# Altium footprint library 单片机.PcbLib: 4 footprints
Each footprint in its own frame and in the unit in brackets; x right, y up, seen from the top. Pads: shape width x height; smd on the part's side, far side on the other; paste and mask are expansions set on the pad; w line width, h text height; cw(c..) or ccw(c..) is an arc to the next point about the centre after c.
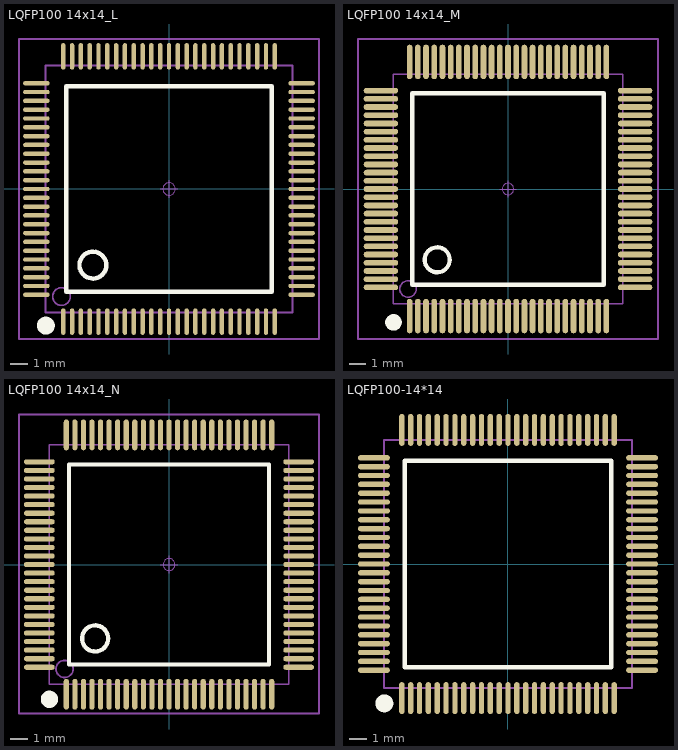
[diagram p0: the footprints below, top view; thin cyan lines are the x and y axes]

## LQFP100 14x14_L [mm] "100脚，体宽14x14mm，脚距0.5mm"
height 1.6
pads (100):
  oval 0.25x1.5 smd: 1(-6,-7.525) 2(-5.5,-7.525) 3(-5,-7.525) 4(-4.5,-7.525) 5(-4,-7.525) 6(-3.5,-7.525) 7(-3,-7.525) 8(-2.5,-7.525) 9(-2,-7.525) 10(-1.5,-7.525) 11(-1,-7.525) 12(-0.5,-7.525) 13(0,-7.525) 14(0.5,-7.525) 15(1,-7.525) 16(1.5,-7.525) 17(2,-7.525) 18(2.5,-7.525) 19(3,-7.525) 20(3.5,-7.525) 21(4,-7.525) 22(4.5,-7.525) 23(5,-7.525) 24(5.5,-7.525) 25(6,-7.525) 51(6,7.525) 52(5.5,7.525) 53(5,7.525) 54(4.5,7.525) 55(4,7.525) 56(3.5,7.525) 57(3,7.525) 58(2.5,7.525) 59(2,7.525) 60(1.5,7.525) 61(1,7.525) 62(0.5,7.525) 63(0,7.525) 64(-0.5,7.525) 65(-1,7.525) 66(-1.5,7.525) 67(-2,7.525) 68(-2.5,7.525) 69(-3,7.525) 70(-3.5,7.525) 71(-4,7.525) 72(-4.5,7.525) 73(-5,7.525) 74(-5.5,7.525) 75(-6,7.525)
  oval 1.5x0.25 smd: 26(7.525,-6) 27(7.525,-5.5) 28(7.525,-5) 29(7.525,-4.5) 30(7.525,-4) 31(7.525,-3.5) 32(7.525,-3) 33(7.525,-2.5) 34(7.525,-2) 35(7.525,-1.5) 36(7.525,-1) 37(7.525,-0.5) 38(7.525,0) 39(7.525,0.5) 40(7.525,1) 41(7.525,1.5) 42(7.525,2) 43(7.525,2.5) 44(7.525,3) 45(7.525,3.5) 46(7.525,4) 47(7.525,4.5) 48(7.525,5) 49(7.525,5.5) 50(7.525,6) 76(-7.525,6) 77(-7.525,5.5) 78(-7.525,5) 79(-7.525,4.5) 80(-7.525,4) 81(-7.525,3.5) 82(-7.525,3) 83(-7.525,2.5) 84(-7.525,2) 85(-7.525,1.5) 86(-7.525,1) 87(-7.525,0.5) 88(-7.525,0) 89(-7.525,-0.5) 90(-7.525,-1) 91(-7.525,-1.5) 92(-7.525,-2) 93(-7.525,-2.5) 94(-7.525,-3) 95(-7.525,-3.5) 96(-7.525,-4) 97(-7.525,-4.5) 98(-7.525,-5) 99(-7.525,-5.5) 100(-7.525,-6)
Top Overlay:
  circle w0.508: c-6.985,-7.747 r0.25
  circle w0.254: c-4.318,-4.318 r0.762
  lines w0.254: -5.842,-5.842 -5.842,5.842 5.842,5.842 5.842,-5.842 -5.842,-5.842
Mechanical 13:
  circle w0.1: c-6.1,-6.1 r0.5
  lines w0.1: -7,-7 -7,7 7,7 7,-7 -7,-7
Mechanical 15:
  circle w0.05: c0,0 r0.35
  lines w0.05: -0.5,0 0.5,0 ; 0,-0.5 0,0.5
  lines w0.1: -8.509,-8.509 -8.509,8.509 8.509,8.509 8.509,-8.509 -8.509,-8.509
3D body "LQFP100-14x14.STEP": height 1.45, standoff -0.01, extent -8.003,-8.003 8.003,8.003

## LQFP100 14x14_M [mm] "100脚，体宽14x14mm，脚距0.5mm"
height 1.6
pads (100):
  oval 0.35x2.1 smd: 1(-6,-7.747) 2(-5.5,-7.747) 3(-5,-7.747) 4(-4.5,-7.747) 5(-4,-7.747) 6(-3.5,-7.747) 7(-3,-7.747) 8(-2.5,-7.747) 9(-2,-7.747) 10(-1.5,-7.747) 11(-1,-7.747) 12(-0.5,-7.747) 13(0,-7.747) 14(0.5,-7.747) 15(1,-7.747) 16(1.5,-7.747) 17(2,-7.747) 18(2.5,-7.747) 19(3,-7.747) 20(3.5,-7.747) 21(4,-7.747) 22(4.5,-7.747) 23(5,-7.747) 24(5.5,-7.747) 25(6,-7.747) 51(6,7.758) 52(5.5,7.758) 53(5,7.758) 54(4.5,7.758) 55(4,7.758) 56(3.5,7.758) 57(3,7.758) 58(2.5,7.758) 59(2,7.758) 60(1.5,7.758) 61(1,7.758) 62(0.5,7.758) 63(0,7.758) 64(-0.5,7.758) 65(-1,7.758) 66(-1.5,7.758) 67(-2,7.758) 68(-2.5,7.758) 69(-3,7.758) 70(-3.5,7.758) 71(-4,7.758) 72(-4.5,7.758) 73(-5,7.758) 74(-5.5,7.758) 75(-6,7.758)
  oval 2.1x0.35 smd: 26(7.752,-5.994) 27(7.752,-5.494) 28(7.752,-4.994) 29(7.752,-4.494) 30(7.752,-3.994) 31(7.752,-3.494) 32(7.752,-2.994) 33(7.752,-2.494) 34(7.752,-1.994) 35(7.752,-1.494) 36(7.752,-0.994) 37(7.752,-0.494) 38(7.752,0.006) 39(7.752,0.506) 40(7.752,1.006) 41(7.752,1.506) 42(7.752,2.006) 43(7.752,2.506) 44(7.752,3.006) 45(7.752,3.506) 46(7.752,4.006) 47(7.752,4.506) 48(7.752,5.006) 49(7.752,5.506) 50(7.752,6.006) 76(-7.752,6.006) 77(-7.752,5.506) 78(-7.752,5.006) 79(-7.752,4.506) 80(-7.752,4.006) 81(-7.752,3.506) 82(-7.752,3.006) 83(-7.752,2.506) 84(-7.752,2.006) 85(-7.752,1.506) 86(-7.752,1.006) 87(-7.752,0.506) 88(-7.752,0.006) 89(-7.752,-0.494) 90(-7.752,-0.994) 91(-7.752,-1.494) 92(-7.752,-1.994) 93(-7.752,-2.494) 94(-7.752,-2.994) 95(-7.752,-3.494) 96(-7.752,-3.994) 97(-7.752,-4.494) 98(-7.752,-4.994) 99(-7.752,-5.494) 100(-7.752,-5.994)
Top Overlay:
  circle w0.254: c-4.318,-4.312 r0.762
  circle w0.508: c-6.985,-8.128 r0.25
  lines w0.254: -5.842,-5.836 5.842,-5.836 5.842,5.848 -5.842,5.848 -5.842,-5.836
Mechanical 13:
  circle w0.1: c-6.1,-6.094 r0.5
  lines w0.1: -7,-6.994 -7,7.006 7,7.006 7,-6.994 -7,-6.994
Mechanical 15:
  circle w0.05: c0,0.006 r0.35
  lines w0.05: -0.5,0.006 0.5,0.006 ; 0,-0.494 0,0.506
  lines w0.1: -9.15,-9.144 -9.15,9.156 9.15,9.156 9.15,-9.144 -9.15,-9.144
3D body "LQFP100-14x14.STEP": height 1.45, standoff -0.01, extent -8.003,-7.997 8.003,8.009

## LQFP100 14x14_N [mm] "100脚，体宽14x14mm，脚距0.5mm"
height 1.6
pads (100):
  oval 0.3x1.8 smd: 1(-6,-7.575) 2(-5.5,-7.575) 3(-5,-7.575) 4(-4.5,-7.575) 5(-4,-7.575) 6(-3.5,-7.575) 7(-3,-7.575) 8(-2.5,-7.575) 9(-2,-7.575) 10(-1.5,-7.575) 11(-1,-7.575) 12(-0.5,-7.575) 13(0,-7.575) 14(0.5,-7.575) 15(1,-7.575) 16(1.5,-7.575) 17(2,-7.575) 18(2.5,-7.575) 19(3,-7.575) 20(3.5,-7.575) 21(4,-7.575) 22(4.5,-7.575) 23(5,-7.575) 24(5.5,-7.575) 25(6,-7.575) 51(6,7.575) 52(5.5,7.575) 53(5,7.575) 54(4.5,7.575) 55(4,7.575) 56(3.5,7.575) 57(3,7.575) 58(2.5,7.575) 59(2,7.575) 60(1.5,7.575) 61(1,7.575) 62(0.5,7.575) 63(0,7.575) 64(-0.5,7.575) 65(-1,7.575) 66(-1.5,7.575) 67(-2,7.575) 68(-2.5,7.575) 69(-3,7.575) 70(-3.5,7.575) 71(-4,7.575) 72(-4.5,7.575) 73(-5,7.575) 74(-5.5,7.575) 75(-6,7.575)
  oval 1.8x0.3 smd: 26(7.576,-6) 27(7.576,-5.5) 28(7.576,-5) 29(7.576,-4.5) 30(7.576,-4) 31(7.576,-3.5) 32(7.576,-3) 33(7.576,-2.5) 34(7.576,-2) 35(7.576,-1.5) 36(7.576,-1) 37(7.576,-0.5) 38(7.576,0) 39(7.576,0.5) 40(7.576,1) 41(7.576,1.5) 42(7.576,2) 43(7.576,2.5) 44(7.576,3) 45(7.576,3.5) 46(7.576,4) 47(7.576,4.5) 48(7.576,5) 49(7.576,5.5) 50(7.576,6) 76(-7.575,6) 77(-7.575,5.5) 78(-7.575,5) 79(-7.575,4.5) 80(-7.575,4) 81(-7.575,3.5) 82(-7.575,3) 83(-7.575,2.5) 84(-7.575,2) 85(-7.575,1.5) 86(-7.575,1) 87(-7.575,0.5) 88(-7.575,0) 89(-7.575,-0.5) 90(-7.575,-1) 91(-7.575,-1.5) 92(-7.575,-2) 93(-7.575,-2.5) 94(-7.575,-3) 95(-7.575,-3.5) 96(-7.575,-4) 97(-7.575,-4.5) 98(-7.575,-5) 99(-7.575,-5.5) 100(-7.575,-6)
Top Overlay:
  circle w0.508: c-6.985,-7.874 r0.25
  circle w0.254: c-4.318,-4.318 r0.762
  lines w0.254: -5.842,-5.842 -5.842,5.842 5.842,5.842 5.842,-5.842 -5.842,-5.842
Mechanical 13:
  circle w0.1: c-6.1,-6.1 r0.5
  lines w0.1: -7,-7 7,-7 7,7 -7,7 -7,-7
Mechanical 15:
  circle w0.05: c0,0 r0.35
  lines w0.05: -0.5,0 0.5,0 ; 0,-0.5 0,0.5
  lines w0.1: -8.763,-8.7 8.763,-8.7 8.763,8.763 -8.763,8.763 -8.763,-8.7
3D body "LQFP100-14x14.STEP": height 1.45, standoff -0.01, extent -8.003,-8.003 8.003,8.003

## LQFP100-14*14 [mm] "14x14mm，0.5mm"
height 1.6
pads (100):
  oval 0.3x1.8 smd: 1(-6,-7.575) 2(-5.5,-7.575) 3(-5,-7.575) 4(-4.5,-7.575) 5(-4,-7.575) 6(-3.5,-7.575) 7(-3,-7.575) 8(-2.5,-7.575) 9(-2,-7.575) 10(-1.5,-7.575) 11(-1,-7.575) 12(-0.5,-7.575) 13(0,-7.575) 14(0.5,-7.575) 15(1,-7.575) 16(1.5,-7.575) 17(2,-7.575) 18(2.5,-7.575) 19(3,-7.575) 20(3.5,-7.575) 21(4,-7.575) 22(4.5,-7.575) 23(5,-7.575) 24(5.5,-7.575) 25(6,-7.575) 51(6,7.575) 52(5.5,7.575) 53(5,7.575) 54(4.5,7.575) 55(4,7.575) 56(3.5,7.575) 57(3,7.575) 58(2.5,7.575) 59(2,7.575) 60(1.5,7.575) 61(1,7.575) 62(0.5,7.575) 63(0,7.575) 64(-0.5,7.575) 65(-1,7.575) 66(-1.5,7.575) 67(-2,7.575) 68(-2.5,7.575) 69(-3,7.575) 70(-3.5,7.575) 71(-4,7.575) 72(-4.5,7.575) 73(-5,7.575) 74(-5.5,7.575) 75(-6,7.575)
  oval 1.8x0.3 smd: 26(7.576,-6) 27(7.576,-5.5) 28(7.576,-5) 29(7.576,-4.5) 30(7.576,-4) 31(7.576,-3.5) 32(7.576,-3) 33(7.576,-2.5) 34(7.576,-2) 35(7.576,-1.5) 36(7.576,-1) 37(7.576,-0.5) 38(7.576,0) 39(7.576,0.5) 40(7.576,1) 41(7.576,1.5) 42(7.576,2) 43(7.576,2.5) 44(7.576,3) 45(7.576,3.5) 46(7.576,4) 47(7.576,4.5) 48(7.576,5) 49(7.576,5.5) 50(7.576,6) 76(-7.575,6) 77(-7.575,5.5) 78(-7.575,5) 79(-7.575,4.5) 80(-7.575,4) 81(-7.575,3.5) 82(-7.575,3) 83(-7.575,2.5) 84(-7.575,2) 85(-7.575,1.5) 86(-7.575,1) 87(-7.575,0.5) 88(-7.575,0) 89(-7.575,-0.5) 90(-7.575,-1) 91(-7.575,-1.5) 92(-7.575,-2) 93(-7.575,-2.5) 94(-7.575,-3) 95(-7.575,-3.5) 96(-7.575,-4) 97(-7.575,-4.5) 98(-7.575,-5) 99(-7.575,-5.5) 100(-7.575,-6)
Top Overlay:
  circle w0.508: c-6.985,-7.874 r0.25
  lines w0.254: -5.842,-5.842 5.842,-5.842 5.842,5.842 -5.842,5.842 -5.842,-5.842
Mechanical 13:
  lines w0.1: -7,-7 -7,7 7,7 7,-7 -7,-7
3D body "LQFP100-14x14.STEP": height 1.45, standoff 0, extent -8.003,-8.003 8.003,8.003